# Altium schematic symbol library TPS22916BYFPT.SchLib: 1 symbol
Pins are listed as number, name and electrical type; pins without a type are passive.

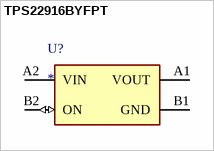
[diagram p0: symbol TPS22916BYFPT]

## TPS22916BYFPT
designator U?
5.5-V, 2-A, 60-m?, 10-nA leakage load switch with output discharge 4-DSBGA -40 to 85; MF: Texas Instruments; MP: TPS22916BYFPT; Value: *; Package: DSBGA-4 Texas Instruments; Purchase-URL: https://pricing.snapeda.com/search/part/TPS22916BYFPT/?ref=eda; Price: None; SnapEDA_Link: https://www.snapeda.com/parts/TPS22916BYFPT/Texas%20Instruments/view-part/1499005/?ref=snap; Availability: Warning; Supplier 1: Mouser; Supplier Part Number 1: 595-TPS22916CYFPR
footprint BGA4C40P2X2_77X77X50
pins: A1 VOUT (power), A2 VIN (power), B1 GND (power), B2 ON (io)